# Altium schematic symbol library 1827654-1.SchLib: 1 symbol
Pins are listed as number, name and electrical type; pins without a type are passive.

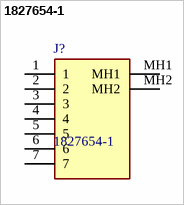
[diagram p0: symbol 1827654-1]

## 1827654-1
designator J?
DC Jack Connectors, Board-to-Board, 7 Position, .079 in [2 mm] Centerline, Plug, 30 VDC, Right Angle, Printed Circuit Board, Power & Signal; Manufacturer_Name: TE Connectivity; Geometry.Height: 4.3mm; Manufacturer_Part_Number: 1827654-1; Mouser Part Number: 571-1827654-1; Mouser Price/Stock: https://www.mouser.co.uk/ProductDetail/TE-Connectivity/1827654-1?qs=y6UIinpTn8hD7CbWsVjTIg%3D%3D; Arrow Part Number: 1827654-1; Arrow Price/Stock: https://www.arrow.com/en/products/1827654-1/te-connectivity?utm_currency=USD&region=europe; Datasheet Link: https://www.te.com/commerce/DocumentDelivery/DDEController?Action=showdoc&DocId=Customer+Drawing%7F1827654%7FD3%7Fpdf%7FEnglish%7FENG_CD_1827654_D3_c-1827654_drw.pdf%7F1827654-1
footprint 18276541
pins: 1, 2, 3, 4, 5, 6, 7, MH1, MH2